# EAGLE library part DS2408 (library 1wire)
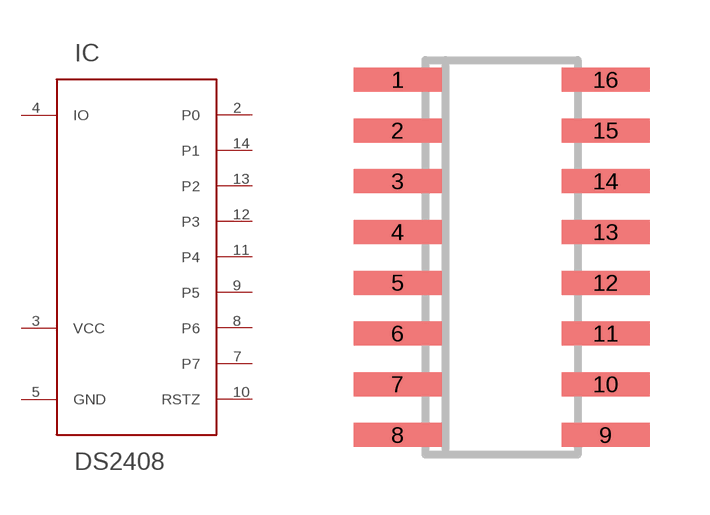
[diagram p0: symbol with the pads of SO16; footprint SO16]

Designator prefix IC

## DS2408  [SO16]
2  P0
3  VCC  pwr
4  IO
5  GND  pwr
7  P7
8  P6
9  P5
10  RSTZ
11  P4
12  P3
13  P2
14  P1

## Footprint SO16 (pad centres in mm)
SMALL OUTLINE INTEGRATED CIRCUIT body 3.9 mm/JEDEC MS-012AC
smd 2.2 x 0.6: 1 -2.6,4.445; 2 -2.6,3.175; 3 -2.6,1.905; 4 -2.6,0.635; 5 -2.6,-0.635; 6 -2.6,-1.905; 7 -2.6,-3.175; 8 -2.6,-4.445; 9 2.6,-4.445; 10 2.6,-3.175; 11 2.6,-1.905; 12 2.6,-0.635; 13 2.6,0.635; 14 2.6,1.905; 15 2.6,3.175; 16 2.6,4.445